# EAGLE library part INA114 (library opamps)
INA114: Precision instrumentation opamp (Burr-Brown) ±15V, ±15mA, 5nA bias 125µV offset, 1MHz UGF, 11nV/rt(Hz) noise
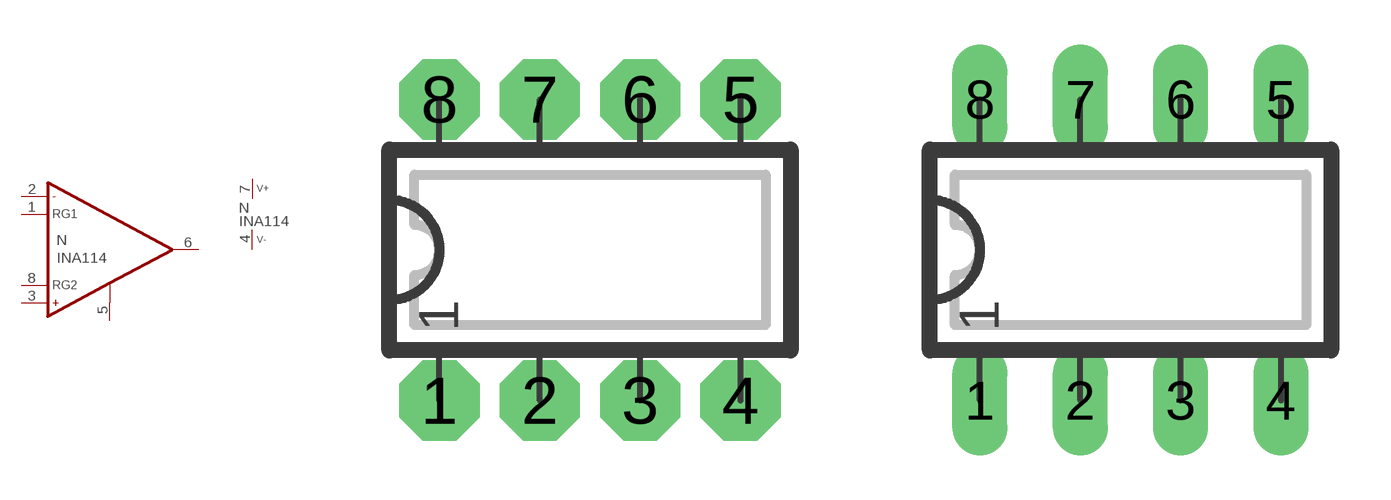
[diagram p180: symbol with the pads of DIP08N; footprints DIP08N, DIP08L]

Designator prefix N; gates A=INA_2 P=V+-

## INA114N  [DIP08N]
1  A:RG1
2  A:OP-  in
3  A:OP+  in
4  P:V-  pwr
5  A:REF  in
6  A:OPO  out
7  P:V+  pwr
8  A:RG2

## INA114L  [DIP08L]
Pads as for DIP08N

## INA114R  [DIP08R]
Pads as for DIP08N

## INA114S  [SO16]
2  A:RG1
4  A:OP-  in
5  A:OP+  in
7  P:V-  pwr
10  A:REF  in
11  A:OPO  out
13  P:V+  pwr
15  A:RG2

## INA114  [DIP08L]
Pads as for DIP08N

## Footprint DIP08N (pad centres in mm)
DIP-8 Standard IC package, 8 pins
drill 0.813 pad 2.032 octagon: 1 -3.81,-3.81; 2 -1.27,-3.81; 3 1.27,-3.81; 4 3.81,-3.81; 5 3.81,3.81; 6 1.27,3.81; 7 -1.27,3.81; 8 -3.81,3.81

## Footprint DIP08L (pad centres in mm)
DIP-8, long pads Standard IC package, 8 pins
drill 0.813 pad 1.397 long: 1 -3.81,-3.81; 2 -1.27,-3.81; 3 1.27,-3.81; 4 3.81,-3.81; 5 3.81,3.81; 6 1.27,3.81; 7 -1.27,3.81; 8 -3.81,3.81

## Footprint DIP08R (pad centres in mm)
DIP-8, reduced pads Standard IC package, 8 pins
drill 0.813 pad 1.397 square: 1 -3.81,-3.81; 2 -1.27,-3.81; 3 1.27,-3.81; 4 3.81,-3.81; 5 3.81,3.81; 6 1.27,3.81; 7 -1.27,3.81; 8 -3.81,3.81

## Footprint SO16 (pad centres in mm)
SO-16, SMD SOIC IC package, 16 pins
smd 0.635 x 1.778: 1 -4.445,-2.857; 2 -3.175,-2.857; 3 -1.905,-2.857; 4 -0.635,-2.857; 5 0.635,-2.857; 6 1.905,-2.857; 7 3.175,-2.857; 8 4.445,-2.857; 9 4.445,2.857; 10 3.175,2.857; 11 1.905,2.857; 12 0.635,2.857; 13 -0.635,2.857; 14 -1.905,2.857; 15 -3.175,2.857; 16 -4.445,2.857